# Altium schematic symbol library WORLDSEMI_WS2812B.SchLib: 1 symbol
Pins are listed as number, name and electrical type; pins without a type are passive.

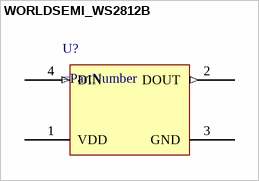
[diagram p0: symbol WORLDSEMI_WS2812B]

## WORLDSEMI_WS2812B
designator U?
pins: 1 VDD, 2 DOUT (out), 3 GND, 4 DIN (in)